# EAGLE library part JTAG (library apple-mini)
Xilinx JTAG Header Source: http://www.xilinx.com/support/documentation/data_sheets/ds593.pdf
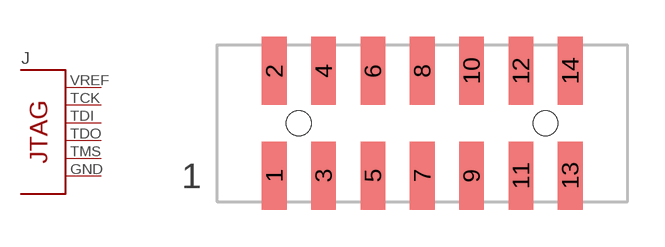
[diagram p2: symbol with the pads of PH07-2-SMT; footprint PH07-2-SMT]

Designator prefix J

## JTAG (MFR: Molex; MFR_PARTNO: 0878321420)  [PH07-2-SMT]
2  VREF  pwr
3  GND  pwr
4  TMS  out
5  GND  pwr
6  TCK  out
7  GND  pwr
8  TDO  in
9  GND  pwr
10  TDI  out
11  GND  pwr

## Footprint PH07-2-SMT (pad centres in mm)
Pin Header
smd 1 x 2.75: 1 -6,-2.125; 2 -6,2.125; 3 -4,-2.125; 4 -4,2.125; 5 -2,-2.125; 6 -2,2.125; 7 0,-2.125; 8 0,2.125; 9 2,-2.125; 10 2,2.125; 11 4,-2.125; 12 4,2.125; 13 6,-2.125; 14 6,2.125
hole 1 at -5,0
hole 1 at 5,0